# Altium schematic symbol library C8051Fx.SchLib: 21 symbols
Pins are listed as number, name and electrical type; pins without a type are passive.

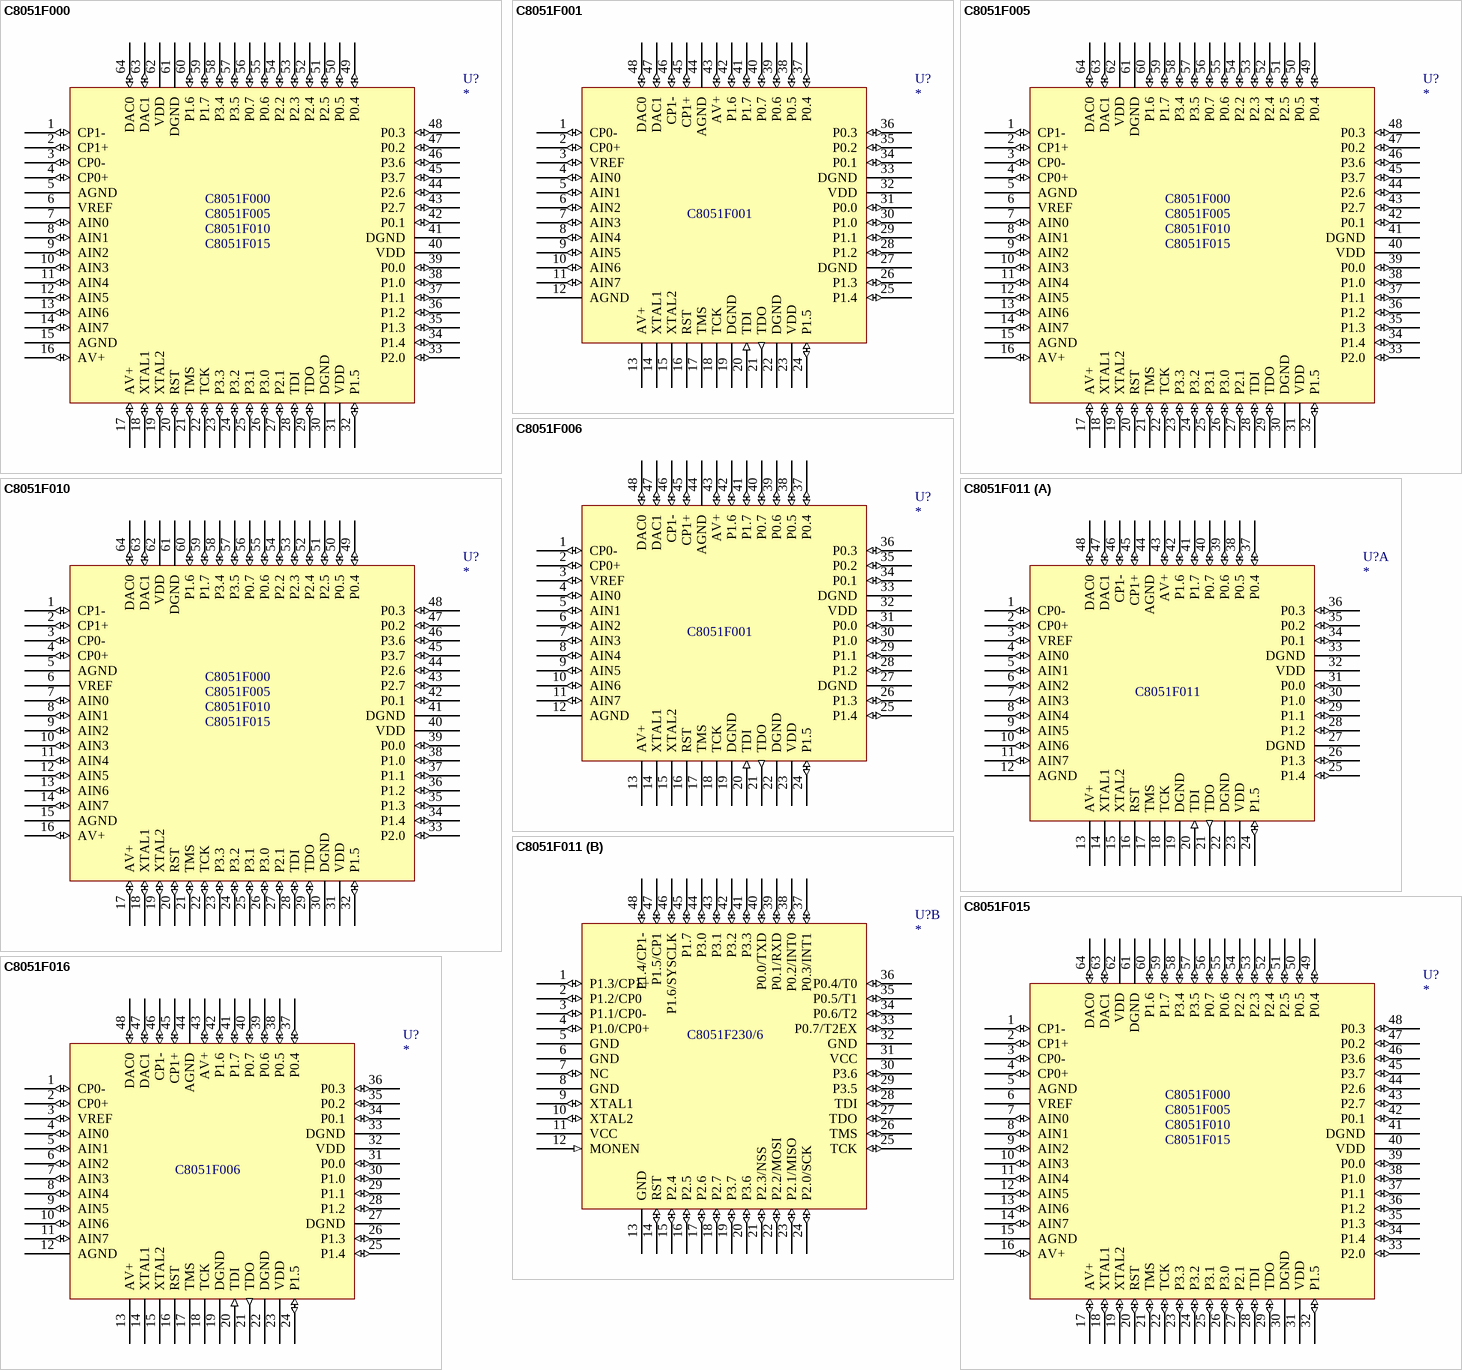
[diagram p0: symbols C8051F000 to C8051F016]

## C8051F000
designator U?
footprint TQFP-64
pins: 1 CP1- (io), 2 CP1+ (io), 3 CP0- (io), 4 CP0+ (io), 5 AGND (power), 6 VREF (power), 7 AIN0 (io), 8 AIN1 (io), 9 AIN2 (io), 10 AIN3 (io), 11 AIN4 (io), 12 AIN5 (io), 13 AIN6 (io), 14 AIN7 (io), 15 AGND (power), 16 AV+ (io), 17 AV+ (io), 18 XTAL1 (io), 19 XTAL2 (io), 20 RST (io), 21 TMS (io), 22 TCK (io), 23 P3.3 (io), 24 P3.2 (io), 25 P3.1 (io), 26 P3.0 (io), 27 P2.1 (io), 28 TDI (io), 29 TDO (io), 30 DGND (power), 31 VDD (power), 32 P1.5 (io), 33 P2.0 (io), 34 P1.4 (io), 35 P1.3 (io), 36 P1.2 (io), 37 P1.1 (io), 38 P1.0 (io), 39 P0.0 (io), 40 VDD (power), 41 DGND (power), 42 P0.1 (io), 43 P2.7 (io), 44 P2.6 (io), 45 P3.7 (io), 46 P3.6 (io), 47 P0.2 (io), 48 P0.3 (io), 49 P0.4 (io), 50 P0.5 (io), 51 P2.5 (io), 52 P2.4 (io), 53 P2.3 (io), 54 P2.2 (io), 55 P0.6 (io), 56 P0.7 (io), 57 P3.5 (io), 58 P3.4 (io), 59 P1.7 (io), 60 P1.6 (io), 61 DGND (power), 62 VDD (power), 63 DAC1 (io), 64 DAC0 (io)
text: C8051F005; C8051F010; C8051F015

## C8051F001
designator U?
footprint TQFP-48
pins: 1 CP0- (io), 2 CP0+ (io), 3 VREF (io), 4 AIN0 (io), 5 AIN1 (io), 6 AIN2 (io), 7 AIN3 (io), 8 AIN4 (io), 9 AIN5 (io), 10 AIN6 (io), 11 AIN7 (io), 12 AGND (power), 13 AV+ (power), 14 XTAL1 (power), 15 XTAL2 (power), 16 RST (power), 17 TMS (power), 18 TCK (power), 19 DGND (power), 20 TDI (in), 21 TDO (out), 22 DGND (power), 23 VDD (power), 24 P1.5 (io), 25 P1.4 (io), 26 P1.3 (io), 27 DGND (power), 28 P1.2 (io), 29 P1.1 (io), 30 P1.0 (io), 31 P0.0 (io), 32 VDD (power), 33 DGND (power), 34 P0.1 (io), 35 P0.2 (io), 36 P0.3 (io), 37 P0.4 (io), 38 P0.5 (io), 39 P0.6 (io), 40 P0.7 (io), 41 P1.7 (io), 42 P1.6 (io), 43 AV+ (io), 44 AGND (power), 45 CP1+ (io), 46 CP1- (io), 47 DAC1 (io), 48 DAC0 (io)

## C8051F005
designator U?
footprint TQFP-64
pins: 1 CP1- (io), 2 CP1+ (io), 3 CP0- (io), 4 CP0+ (io), 5 AGND (power), 6 VREF (power), 7 AIN0 (io), 8 AIN1 (io), 9 AIN2 (io), 10 AIN3 (io), 11 AIN4 (io), 12 AIN5 (io), 13 AIN6 (io), 14 AIN7 (io), 15 AGND (power), 16 AV+ (io), 17 AV+ (io), 18 XTAL1 (io), 19 XTAL2 (io), 20 RST (io), 21 TMS (io), 22 TCK (io), 23 P3.3 (io), 24 P3.2 (io), 25 P3.1 (io), 26 P3.0 (io), 27 P2.1 (io), 28 TDI (io), 29 TDO (io), 30 DGND (power), 31 VDD (power), 32 P1.5 (io), 33 P2.0 (io), 34 P1.4 (io), 35 P1.3 (io), 36 P1.2 (io), 37 P1.1 (io), 38 P1.0 (io), 39 P0.0 (io), 40 VDD (power), 41 DGND (power), 42 P0.1 (io), 43 P2.7 (io), 44 P2.6 (io), 45 P3.7 (io), 46 P3.6 (io), 47 P0.2 (io), 48 P0.3 (io), 49 P0.4 (io), 50 P0.5 (io), 51 P2.5 (io), 52 P2.4 (io), 53 P2.3 (io), 54 P2.2 (io), 55 P0.6 (io), 56 P0.7 (io), 57 P3.5 (io), 58 P3.4 (io), 59 P1.7 (io), 60 P1.6 (io), 61 DGND (power), 62 VDD (power), 63 DAC1 (io), 64 DAC0 (io)
text: C8051F000; C8051F010; C8051F015

## C8051F006
designator U?
footprint TQFP-48
pins: 1 CP0- (io), 2 CP0+ (io), 3 VREF (io), 4 AIN0 (io), 5 AIN1 (io), 6 AIN2 (io), 7 AIN3 (io), 8 AIN4 (io), 9 AIN5 (io), 10 AIN6 (io), 11 AIN7 (io), 12 AGND (power), 13 AV+ (power), 14 XTAL1 (power), 15 XTAL2 (power), 16 RST (power), 17 TMS (power), 18 TCK (power), 19 DGND (power), 20 TDI (in), 21 TDO (out), 22 DGND (power), 23 VDD (power), 24 P1.5 (io), 25 P1.4 (io), 26 P1.3 (io), 27 DGND (power), 28 P1.2 (io), 29 P1.1 (io), 30 P1.0 (io), 31 P0.0 (io), 32 VDD (power), 33 DGND (power), 34 P0.1 (io), 35 P0.2 (io), 36 P0.3 (io), 37 P0.4 (io), 38 P0.5 (io), 39 P0.6 (io), 40 P0.7 (io), 41 P1.7 (io), 42 P1.6 (io), 43 AV+ (io), 44 AGND (power), 45 CP1+ (io), 46 CP1- (io), 47 DAC1 (io), 48 DAC0 (io)
text: C8051F001

## C8051F010
designator U?
footprint TQFP-64
pins: 1 CP1- (io), 2 CP1+ (io), 3 CP0- (io), 4 CP0+ (io), 5 AGND (power), 6 VREF (power), 7 AIN0 (io), 8 AIN1 (io), 9 AIN2 (io), 10 AIN3 (io), 11 AIN4 (io), 12 AIN5 (io), 13 AIN6 (io), 14 AIN7 (io), 15 AGND (power), 16 AV+ (io), 17 AV+ (io), 18 XTAL1 (io), 19 XTAL2 (io), 20 RST (io), 21 TMS (io), 22 TCK (io), 23 P3.3 (io), 24 P3.2 (io), 25 P3.1 (io), 26 P3.0 (io), 27 P2.1 (io), 28 TDI (io), 29 TDO (io), 30 DGND (power), 31 VDD (power), 32 P1.5 (io), 33 P2.0 (io), 34 P1.4 (io), 35 P1.3 (io), 36 P1.2 (io), 37 P1.1 (io), 38 P1.0 (io), 39 P0.0 (io), 40 VDD (power), 41 DGND (power), 42 P0.1 (io), 43 P2.7 (io), 44 P2.6 (io), 45 P3.7 (io), 46 P3.6 (io), 47 P0.2 (io), 48 P0.3 (io), 49 P0.4 (io), 50 P0.5 (io), 51 P2.5 (io), 52 P2.4 (io), 53 P2.3 (io), 54 P2.2 (io), 55 P0.6 (io), 56 P0.7 (io), 57 P3.5 (io), 58 P3.4 (io), 59 P1.7 (io), 60 P1.6 (io), 61 DGND (power), 62 VDD (power), 63 DAC1 (io), 64 DAC0 (io)
text: C8051F000; C8051F005; C8051F015

## C8051F011
designator U?
footprint TQFP-48
part A pins: 1 CP0- (io), 2 CP0+ (io), 3 VREF (io), 4 AIN0 (io), 5 AIN1 (io), 6 AIN2 (io), 7 AIN3 (io), 8 AIN4 (io), 9 AIN5 (io), 10 AIN6 (io), 11 AIN7 (io), 12 AGND (power), 13 AV+ (power), 14 XTAL1 (power), 15 XTAL2 (power), 16 RST (power), 17 TMS (power), 18 TCK (power), 19 DGND (power), 20 TDI (in), 21 TDO (out), 22 DGND (power), 23 VDD (power), 24 P1.5 (io), 25 P1.4 (io), 26 P1.3 (io), 27 DGND (power), 28 P1.2 (io), 29 P1.1 (io), 30 P1.0 (io), 31 P0.0 (io), 32 VDD (power), 33 DGND (power), 34 P0.1 (io), 35 P0.2 (io), 36 P0.3 (io), 37 P0.4 (io), 38 P0.5 (io), 39 P0.6 (io), 40 P0.7 (io), 41 P1.7 (io), 42 P1.6 (io), 43 AV+ (io), 44 AGND (power), 45 CP1+ (io), 46 CP1- (io), 47 DAC1 (io), 48 DAC0 (io)
part B pins: 1 P1.3/CP1+ (io), 2 P1.2/CP0 (io), 3 P1.1/CP0- (io), 4 P1.0/CP0+ (io), 5 GND (power), 6 GND (power), 7 NC (io), 8 GND (power), 9 XTAL1 (io), 10 XTAL2 (io), 11 VCC (power), 12 MONEN (in), 13 GND (power), 14 RST (io), 15 P2.4 (io), 16 P2.5 (io), 17 P2.6 (io), 18 P2.7 (io), 19 P3.7 (io), 20 P3.6 (io), 21 P2.3/NSS (io), 22 P2.2/MOSI (io), 23 P2.1/MISO (io), 24 P2.0/SCK (io), 25 TCK (io), 26 TMS (io), 27 TDO (io), 28 TDI (io), 29 P3.5 (io), 30 P3.6 (io), 31 VCC (power), 32 GND (power), 33 P0.7/T2EX (io), 34 P0.6/T2 (io), 35 P0.5/T1 (io), 36 P0.4/T0 (io), 37 P0.3/INT1 (io), 38 P0.2/INT0 (io), 39 P0.1/RXD (io), 40 P0.0/TXD (io), 41 P3.3 (io), 42 P3.2 (io), 43 P3.1 (io), 44 P3.0 (io), 45 P1.7 (io), 46 P1.6/SYSCLK (io), 47 P1.5/CP1 (io), 48 P1.4/CP1- (io)
part B text: C8051F230/6

## C8051F015
designator U?
footprint TQFP-64
pins: 1 CP1- (io), 2 CP1+ (io), 3 CP0- (io), 4 CP0+ (io), 5 AGND (power), 6 VREF (power), 7 AIN0 (io), 8 AIN1 (io), 9 AIN2 (io), 10 AIN3 (io), 11 AIN4 (io), 12 AIN5 (io), 13 AIN6 (io), 14 AIN7 (io), 15 AGND (power), 16 AV+ (io), 17 AV+ (io), 18 XTAL1 (io), 19 XTAL2 (io), 20 RST (io), 21 TMS (io), 22 TCK (io), 23 P3.3 (io), 24 P3.2 (io), 25 P3.1 (io), 26 P3.0 (io), 27 P2.1 (io), 28 TDI (io), 29 TDO (io), 30 DGND (power), 31 VDD (power), 32 P1.5 (io), 33 P2.0 (io), 34 P1.4 (io), 35 P1.3 (io), 36 P1.2 (io), 37 P1.1 (io), 38 P1.0 (io), 39 P0.0 (io), 40 VDD (power), 41 DGND (power), 42 P0.1 (io), 43 P2.7 (io), 44 P2.6 (io), 45 P3.7 (io), 46 P3.6 (io), 47 P0.2 (io), 48 P0.3 (io), 49 P0.4 (io), 50 P0.5 (io), 51 P2.5 (io), 52 P2.4 (io), 53 P2.3 (io), 54 P2.2 (io), 55 P0.6 (io), 56 P0.7 (io), 57 P3.5 (io), 58 P3.4 (io), 59 P1.7 (io), 60 P1.6 (io), 61 DGND (power), 62 VDD (power), 63 DAC1 (io), 64 DAC0 (io)
text: C8051F000; C8051F005; C8051F010

## C8051F016
designator U?
footprint TQFP-48
pins: 1 CP0- (io), 2 CP0+ (io), 3 VREF (io), 4 AIN0 (io), 5 AIN1 (io), 6 AIN2 (io), 7 AIN3 (io), 8 AIN4 (io), 9 AIN5 (io), 10 AIN6 (io), 11 AIN7 (io), 12 AGND (power), 13 AV+ (power), 14 XTAL1 (power), 15 XTAL2 (power), 16 RST (power), 17 TMS (power), 18 TCK (power), 19 DGND (power), 20 TDI (in), 21 TDO (out), 22 DGND (power), 23 VDD (power), 24 P1.5 (io), 25 P1.4 (io), 26 P1.3 (io), 27 DGND (power), 28 P1.2 (io), 29 P1.1 (io), 30 P1.0 (io), 31 P0.0 (io), 32 VDD (power), 33 DGND (power), 34 P0.1 (io), 35 P0.2 (io), 36 P0.3 (io), 37 P0.4 (io), 38 P0.5 (io), 39 P0.6 (io), 40 P0.7 (io), 41 P1.7 (io), 42 P1.6 (io), 43 AV+ (io), 44 AGND (power), 45 CP1+ (io), 46 CP1- (io), 47 DAC1 (io), 48 DAC0 (io)
text: C8051F006

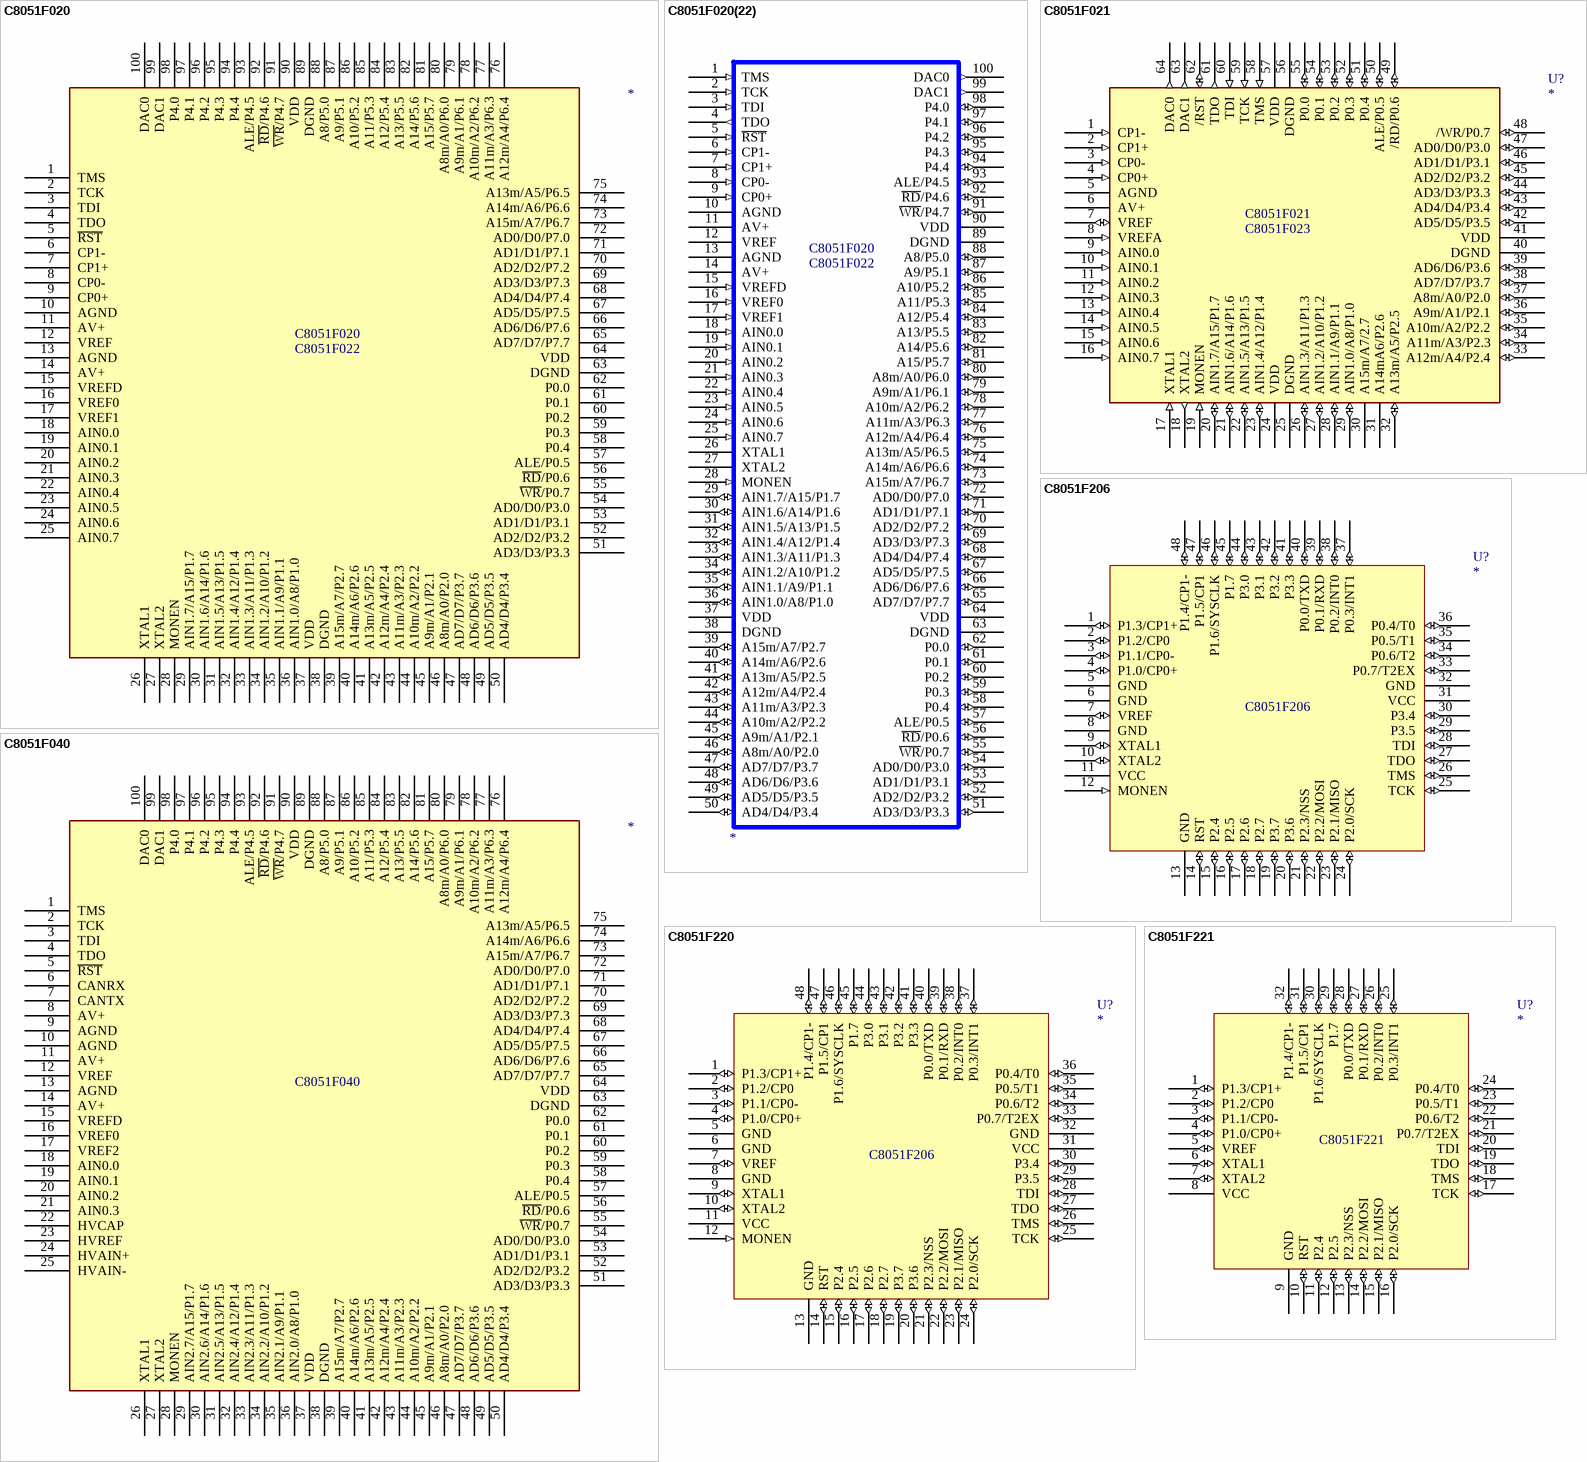
[diagram p1: symbols C8051F020 to C8051F221]

## C8051F020
designator ?
pins: 1 TMS, 2 TCK, 3 TDI, 4 TDO, 5 ~{RST}, 6 CP1-, 7 CP1+, 8 CP0-, 9 CP0+, 10 AGND, 11 AV+, 12 VREF, 13 AGND, 14 AV+, 15 VREFD, 16 VREF0, 17 VREF1, 18 AIN0.0, 19 AIN0.1, 20 AIN0.2, 21 AIN0.3, 22 AIN0.4, 23 AIN0.5, 24 AIN0.6, 25 AIN0.7, 26 XTAL1, 27 XTAL2, 28 MONEN, 29 AIN1.7/A15/P1.7, 30 AIN1.6/A14/P1.6, 31 AIN1.5/A13/P1.5, 32 AIN1.4/A12/P1.4, 33 AIN1.3/A11/P1.3, 34 AIN1.2/A10/P1.2, 35 AIN1.1/A9/P1.1, 36 AIN1.0/A8/P1.0, 37 VDD, 38 DGND, 39 A15m/A7/P2.7, 40 A14m/A6/P2.6, 41 A13m/A5/P2.5, 42 A12m/A4/P2.4, 43 A11m/A3/P2.3, 44 A10m/A2/P2.2, 45 A9m/A1/P2.1, 46 A8m/A0/P2.0, 47 AD7/D7/P3.7, 48 AD6/D6/P3.6, 49 AD5/D5/P3.5, 50 AD4/D4/P3.4, 51 AD3/D3/P3.3, 52 AD2/D2/P3.2, 53 AD1/D1/P3.1, 54 AD0/D0/P3.0, 55 ~{WR}/P0.7, 56 ~{RD}/P0.6, 57 ALE/P0.5, 58 P0.4, 59 P0.3, 60 P0.2, 61 P0.1, 62 P0.0, 63 DGND, 64 VDD, 65 AD7/D7/P7.7, 66 AD6/D6/P7.6, 67 AD5/D5/P7.5, 68 AD4/D4/P7.4, 69 AD3/D3/P7.3, 70 AD2/D2/P7.2, 71 AD1/D1/P7.1, 72 AD0/D0/P7.0, 73 A15m/A7/P6.7, 74 A14m/A6/P6.6, 75 A13m/A5/P6.5, 76 A12m/A4/P6.4, 77 A11m/A3/P6.3, 78 A10m/A2/P6.2, 79 A9m/A1/P6.1, 80 A8m/A0/P6.0, 81 A15/P5.7, 82 A14/P5.6, 83 A13/P5.5, 84 A12/P5.4, 85 A11/P5.3, 86 A10/P5.2, 87 A9/P5.1, 88 A8/P5.0, 89 DGND, 90 VDD, 91 ~{WR}/P4.7, 92 ~{RD}/P4.6, 93 ALE/P4.5, 94 P4.4, 95 P4.3, 96 P4.2, 97 P4.1, 98 P4.0, 99 DAC1, 100 DAC0
text: C8051F022

## C8051F020(22)
designator ?
pins: 1 TMS (in), 2 TCK (in), 3 TDI (in), 4 TDO (out), 5 ~{RST} (in), 6 CP1- (in), 7 CP1+ (in), 8 CP0- (in), 9 CP0+ (in), 10 AGND (power), 11 AV+ (power), 12 VREF, 13 AGND (power), 14 AV+ (power), 15 VREFD (in), 16 VREF0 (in), 17 VREF1 (in), 18 AIN0.0 (in), 19 AIN0.1 (in), 20 AIN0.2 (in), 21 AIN0.3 (in), 22 AIN0.4 (in), 23 AIN0.5 (in), 24 AIN0.6 (in), 25 AIN0.7 (in), 26 XTAL1, 27 XTAL2, 28 MONEN (in), 29 AIN1.7/A15/P1.7 (io), 30 AIN1.6/A14/P1.6 (io), 31 AIN1.5/A13/P1.5 (io), 32 AIN1.4/A12/P1.4 (io), 33 AIN1.3/A11/P1.3 (io), 34 AIN1.2/A10/P1.2 (io), 35 AIN1.1/A9/P1.1 (io), 36 AIN1.0/A8/P1.0 (io), 37 VDD (power), 38 DGND (power), 39 A15m/A7/P2.7 (io), 40 A14m/A6/P2.6 (io), 41 A13m/A5/P2.5 (io), 42 A12m/A4/P2.4 (io), 43 A11m/A3/P2.3 (io), 44 A10m/A2/P2.2 (io), 45 A9m/A1/P2.1 (io), 46 A8m/A0/P2.0 (io), 47 AD7/D7/P3.7 (io), 48 AD6/D6/P3.6 (io), 49 AD5/D5/P3.5 (io), 50 AD4/D4/P3.4 (io), 51 AD3/D3/P3.3 (io), 52 AD2/D2/P3.2 (io), 53 AD1/D1/P3.1 (io), 54 AD0/D0/P3.0 (io), 55 ~{WR}/P0.7 (io), 56 ~{RD}/P0.6 (io), 57 ALE/P0.5 (io), 58 P0.4 (io), 59 P0.3 (io), 60 P0.2 (io), 61 P0.1 (io), 62 P0.0 (io), 63 DGND (power), 64 VDD (power), 65 AD7/D7/P7.7 (io), 66 AD6/D6/P7.6 (io), 67 AD5/D5/P7.5 (io), 68 AD4/D4/P7.4 (io), 69 AD3/D3/P7.3 (io), 70 AD2/D2/P7.2 (io), 71 AD1/D1/P7.1 (io), 72 AD0/D0/P7.0 (io), 73 A15m/A7/P6.7 (io), 74 A14m/A6/P6.6 (io), 75 A13m/A5/P6.5 (io), 76 A12m/A4/P6.4 (io), 77 A11m/A3/P6.3 (io), 78 A10m/A2/P6.2 (io), 79 A9m/A1/P6.1 (io), 80 A8m/A0/P6.0 (io), 81 A15/P5.7 (io), 82 A14/P5.6 (io), 83 A13/P5.5 (io), 84 A12/P5.4 (io), 85 A11/P5.3 (io), 86 A10/P5.2 (io), 87 A9/P5.1 (io), 88 A8/P5.0 (io), 89 DGND (power), 90 VDD (power), 91 ~{WR}/P4.7 (io), 92 ~{RD}/P4.6 (io), 93 ALE/P4.5 (io), 94 P4.4 (io), 95 P4.3 (io), 96 P4.2 (io), 97 P4.1 (io), 98 P4.0 (io), 99 DAC1 (out), 100 DAC0 (out)
text: C8051F020; C8051F022

## C8051F021
designator U?
footprint TQFP-64
pins: 1 CP1- (in), 2 CP1+ (in), 3 CP0- (in), 4 CP0+ (in), 5 AGND (power), 6 AV+ (power), 7 VREF (io), 8 VREFA (in), 9 AIN0.0 (in), 10 AIN0.1 (in), 11 AIN0.2 (in), 12 AIN0.3 (in), 13 AIN0.4 (in), 14 AIN0.5 (in), 15 AIN0.6 (in), 16 AIN0.7 (in), 17 XTAL1 (in), 18 XTAL2 (out), 19 MONEN (in), 20 AIN1.7/A15/P1.7 (io), 21 AIN1.6/A14/P1.6 (io), 22 AIN1.5/A13/P1.5 (io), 23 AIN1.4/A12/P1.4 (io), 24 VDD (power), 25 DGND (power), 26 AIN1.3/A11/P1.3 (io), 27 AIN1.2/A10/P1.2 (io), 28 AIN1.1/A9/P1.1 (io), 29 AIN1.0/A8/P1.0 (io), 30 A15m/A7/2.7 (power), 31 A14mA6/P2.6 (power), 32 A13m/A5/P2.5 (io), 33 A12m/A4/P2.4 (io), 34 A11m/A3/P2.3 (io), 35 A10m/A2/P2.2 (io), 36 A9m/A1/P2.1 (io), 37 A8m/A0/P2.0 (io), 38 AD7/D7/P3.7 (io), 39 AD6/D6/P3.6 (io), 40 DGND (power), 41 VDD (power), 42 AD5/D5/P3.5 (io), 43 AD4/D4/P3.4 (io), 44 AD3/D3/P3.3 (io), 45 AD2/D2/P3.2 (io), 46 AD1/D1/P3.1 (io), 47 AD0/D0/P3.0 (io), 48 /WR/P0.7 (io), 49 /RD/P0.6 (io), 50 ALE/P0.5 (io), 51 P0.4 (io), 52 P0.3 (io), 53 P0.2 (io), 54 P0.1 (io), 55 P0.0 (io), 56 DGND (power), 57 VDD (power), 58 TMS (in), 59 TCK (in), 60 TDI (in), 61 TDO (out), 62 /RST (io), 63 DAC1 (out), 64 DAC0 (out)
text: C8051F023

## C8051F040
designator ?
pins: 1 TMS, 2 TCK, 3 TDI, 4 TDO, 5 ~{RST}, 6 CANRX, 7 CANTX, 8 AV+, 9 AGND, 10 AGND, 11 AV+, 12 VREF, 13 AGND, 14 AV+, 15 VREFD, 16 VREF0, 17 VREF2, 18 AIN0.0, 19 AIN0.1, 20 AIN0.2, 21 AIN0.3, 22 HVCAP, 23 HVREF, 24 HVAIN+, 25 HVAIN-, 26 XTAL1, 27 XTAL2, 28 MONEN, 29 AIN2.7/A15/P1.7, 30 AIN2.6/A14/P1.6, 31 AIN2.5/A13/P1.5, 32 AIN2.4/A12/P1.4, 33 AIN2.3/A11/P1.3, 34 AIN2.2/A10/P1.2, 35 AIN2.1/A9/P1.1, 36 AIN2.0/A8/P1.0, 37 VDD, 38 DGND, 39 A15m/A7/P2.7, 40 A14m/A6/P2.6, 41 A13m/A5/P2.5, 42 A12m/A4/P2.4, 43 A11m/A3/P2.3, 44 A10m/A2/P2.2, 45 A9m/A1/P2.1, 46 A8m/A0/P2.0, 47 AD7/D7/P3.7, 48 AD6/D6/P3.6, 49 AD5/D5/P3.5, 50 AD4/D4/P3.4, 51 AD3/D3/P3.3, 52 AD2/D2/P3.2, 53 AD1/D1/P3.1, 54 AD0/D0/P3.0, 55 ~{WR}/P0.7, 56 ~{RD}/P0.6, 57 ALE/P0.5, 58 P0.4, 59 P0.3, 60 P0.2, 61 P0.1, 62 P0.0, 63 DGND, 64 VDD, 65 AD7/D7/P7.7, 66 AD6/D6/P7.6, 67 AD5/D5/P7.5, 68 AD4/D4/P7.4, 69 AD3/D3/P7.3, 70 AD2/D2/P7.2, 71 AD1/D1/P7.1, 72 AD0/D0/P7.0, 73 A15m/A7/P6.7, 74 A14m/A6/P6.6, 75 A13m/A5/P6.5, 76 A12m/A4/P6.4, 77 A11m/A3/P6.3, 78 A10m/A2/P6.2, 79 A9m/A1/P6.1, 80 A8m/A0/P6.0, 81 A15/P5.7, 82 A14/P5.6, 83 A13/P5.5, 84 A12/P5.4, 85 A11/P5.3, 86 A10/P5.2, 87 A9/P5.1, 88 A8/P5.0, 89 DGND, 90 VDD, 91 ~{WR}/P4.7, 92 ~{RD}/P4.6, 93 ALE/P4.5, 94 P4.4, 95 P4.3, 96 P4.2, 97 P4.1, 98 P4.0, 99 DAC1, 100 DAC0

## C8051F206
designator U?
footprint TQFP-48
pins: 1 P1.3/CP1+ (io), 2 P1.2/CP0 (io), 3 P1.1/CP0- (io), 4 P1.0/CP0+ (io), 5 GND (power), 6 GND (power), 7 VREF (io), 8 GND (power), 9 XTAL1 (io), 10 XTAL2 (io), 11 VCC (power), 12 MONEN (in), 13 GND (power), 14 RST (io), 15 P2.4 (io), 16 P2.5 (io), 17 P2.6 (io), 18 P2.7 (io), 19 P3.7 (io), 20 P3.6 (io), 21 P2.3/NSS (io), 22 P2.2/MOSI (io), 23 P2.1/MISO (io), 24 P2.0/SCK (io), 25 TCK (io), 26 TMS (io), 27 TDO (io), 28 TDI (io), 29 P3.5 (io), 30 P3.4 (io), 31 VCC (power), 32 GND (power), 33 P0.7/T2EX (io), 34 P0.6/T2 (io), 35 P0.5/T1 (io), 36 P0.4/T0 (io), 37 P0.3/INT1 (io), 38 P0.2/INT0 (io), 39 P0.1/RXD (io), 40 P0.0/TXD (io), 41 P3.3 (io), 42 P3.2 (io), 43 P3.1 (io), 44 P3.0 (io), 45 P1.7 (io), 46 P1.6/SYSCLK (io), 47 P1.5/CP1 (io), 48 P1.4/CP1- (io)

## C8051F220
designator U?
footprint TQFP-48
pins: 1 P1.3/CP1+ (io), 2 P1.2/CP0 (io), 3 P1.1/CP0- (io), 4 P1.0/CP0+ (io), 5 GND (power), 6 GND (power), 7 VREF (io), 8 GND (power), 9 XTAL1 (io), 10 XTAL2 (io), 11 VCC (power), 12 MONEN (in), 13 GND (power), 14 RST (io), 15 P2.4 (io), 16 P2.5 (io), 17 P2.6 (io), 18 P2.7 (io), 19 P3.7 (io), 20 P3.6 (io), 21 P2.3/NSS (io), 22 P2.2/MOSI (io), 23 P2.1/MISO (io), 24 P2.0/SCK (io), 25 TCK (io), 26 TMS (io), 27 TDO (io), 28 TDI (io), 29 P3.5 (io), 30 P3.4 (io), 31 VCC (power), 32 GND (power), 33 P0.7/T2EX (io), 34 P0.6/T2 (io), 35 P0.5/T1 (io), 36 P0.4/T0 (io), 37 P0.3/INT1 (io), 38 P0.2/INT0 (io), 39 P0.1/RXD (io), 40 P0.0/TXD (io), 41 P3.3 (io), 42 P3.2 (io), 43 P3.1 (io), 44 P3.0 (io), 45 P1.7 (io), 46 P1.6/SYSCLK (io), 47 P1.5/CP1 (io), 48 P1.4/CP1- (io)
text: C8051F206

## C8051F221
designator U?
footprint LQFP-32
pins: 1 P1.3/CP1+ (io), 2 P1.2/CP0 (io), 3 P1.1/CP0- (io), 4 P1.0/CP0+ (io), 5 VREF (io), 6 XTAL1 (io), 7 XTAL2 (io), 8 VCC (power), 9 GND (power), 10 RST (io), 11 P2.4 (io), 12 P2.5 (io), 13 P2.3/NSS (io), 14 P2.2/MOSI (io), 15 P2.1/MISO (io), 16 P2.0/SCK (io), 17 TCK (io), 18 TMS (io), 19 TDO (io), 20 TDI (io), 21 P0.7/T2EX (io), 22 P0.6/T2 (io), 23 P0.5/T1 (io), 24 P0.4/T0 (io), 25 P0.3/INT1 (io), 26 P0.2/INT0 (io), 27 P0.1/RXD (io), 28 P0.0/TXD (io), 29 P1.7 (io), 30 P1.6/SYSCLK (io), 31 P1.5/CP1 (io), 32 P1.4/CP1- (io)

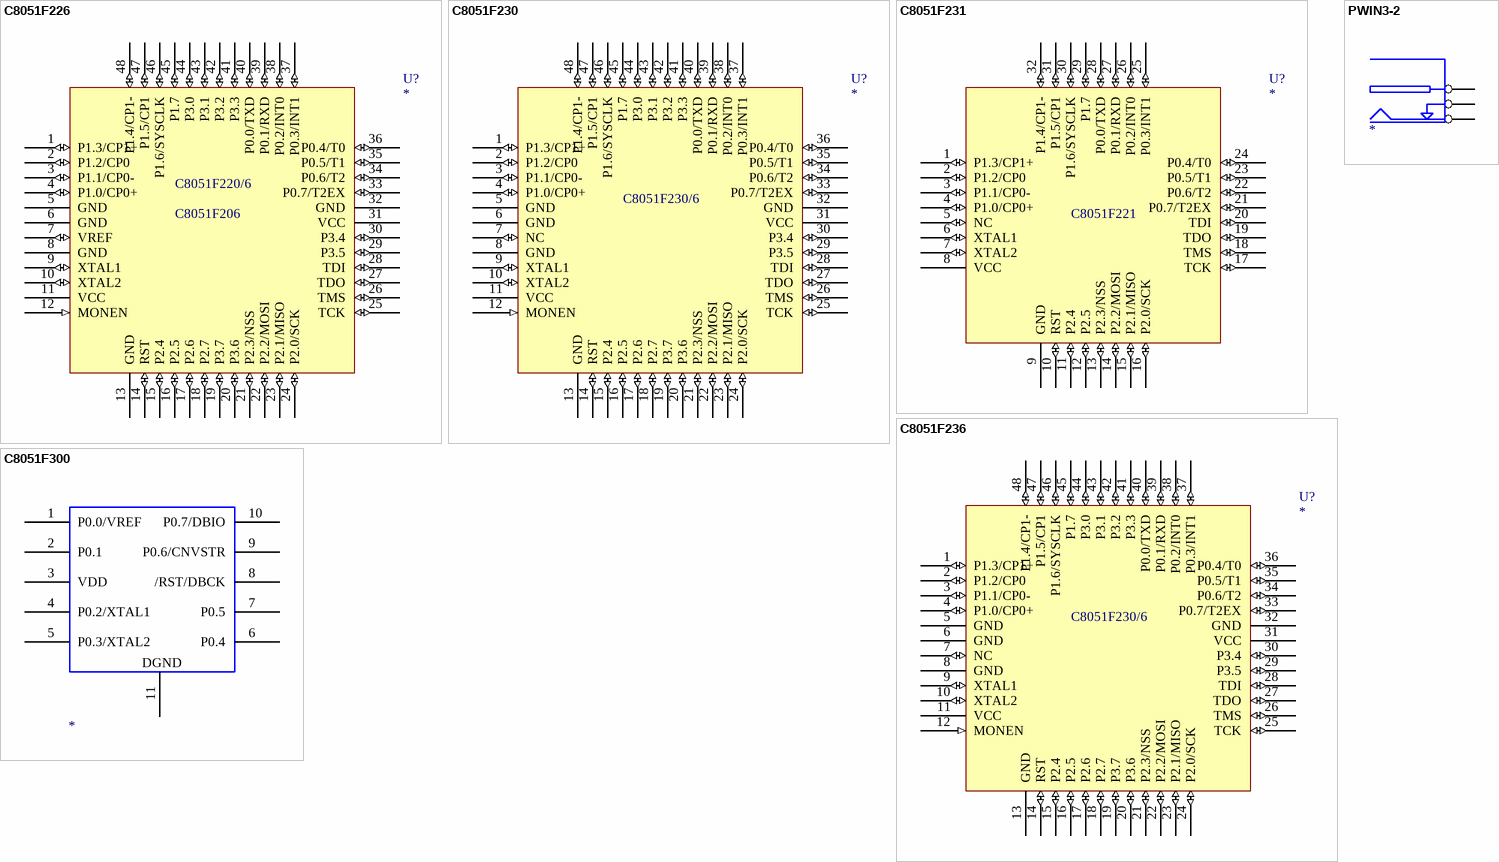
[diagram p2: symbols C8051F226 to PWIN3-2]

## C8051F226
designator U?
pins: 1 P1.3/CP1+ (io), 2 P1.2/CP0 (io), 3 P1.1/CP0- (io), 4 P1.0/CP0+ (io), 5 GND (power), 6 GND (power), 7 VREF (io), 8 GND (power), 9 XTAL1 (io), 10 XTAL2 (io), 11 VCC (power), 12 MONEN (in), 13 GND (power), 14 RST (io), 15 P2.4 (io), 16 P2.5 (io), 17 P2.6 (io), 18 P2.7 (io), 19 P3.7 (io), 20 P3.6 (io), 21 P2.3/NSS (io), 22 P2.2/MOSI (io), 23 P2.1/MISO (io), 24 P2.0/SCK (io), 25 TCK (io), 26 TMS (io), 27 TDO (io), 28 TDI (io), 29 P3.5 (io), 30 P3.4 (io), 31 VCC (power), 32 GND (power), 33 P0.7/T2EX (io), 34 P0.6/T2 (io), 35 P0.5/T1 (io), 36 P0.4/T0 (io), 37 P0.3/INT1 (io), 38 P0.2/INT0 (io), 39 P0.1/RXD (io), 40 P0.0/TXD (io), 41 P3.3 (io), 42 P3.2 (io), 43 P3.1 (io), 44 P3.0 (io), 45 P1.7 (io), 46 P1.6/SYSCLK (io), 47 P1.5/CP1 (io), 48 P1.4/CP1- (io)
text: C8051F220/6; C8051F206

## C8051F230
designator U?
pins: 1 P1.3/CP1+ (io), 2 P1.2/CP0 (io), 3 P1.1/CP0- (io), 4 P1.0/CP0+ (io), 5 GND (power), 6 GND (power), 7 NC (io), 8 GND (power), 9 XTAL1 (io), 10 XTAL2 (io), 11 VCC (power), 12 MONEN (in), 13 GND (power), 14 RST (io), 15 P2.4 (io), 16 P2.5 (io), 17 P2.6 (io), 18 P2.7 (io), 19 P3.7 (io), 20 P3.6 (io), 21 P2.3/NSS (io), 22 P2.2/MOSI (io), 23 P2.1/MISO (io), 24 P2.0/SCK (io), 25 TCK (io), 26 TMS (io), 27 TDO (io), 28 TDI (io), 29 P3.5 (io), 30 P3.4 (io), 31 VCC (power), 32 GND (power), 33 P0.7/T2EX (io), 34 P0.6/T2 (io), 35 P0.5/T1 (io), 36 P0.4/T0 (io), 37 P0.3/INT1 (io), 38 P0.2/INT0 (io), 39 P0.1/RXD (io), 40 P0.0/TXD (io), 41 P3.3 (io), 42 P3.2 (io), 43 P3.1 (io), 44 P3.0 (io), 45 P1.7 (io), 46 P1.6/SYSCLK (io), 47 P1.5/CP1 (io), 48 P1.4/CP1- (io)
text: C8051F230/6

## C8051F231
designator U?
footprint LQFP-32
pins: 1 P1.3/CP1+ (io), 2 P1.2/CP0 (io), 3 P1.1/CP0- (io), 4 P1.0/CP0+ (io), 5 NC (io), 6 XTAL1 (io), 7 XTAL2 (io), 8 VCC (power), 9 GND (power), 10 RST (io), 11 P2.4 (io), 12 P2.5 (io), 13 P2.3/NSS (io), 14 P2.2/MOSI (io), 15 P2.1/MISO (io), 16 P2.0/SCK (io), 17 TCK (io), 18 TMS (io), 19 TDO (io), 20 TDI (io), 21 P0.7/T2EX (io), 22 P0.6/T2 (io), 23 P0.5/T1 (io), 24 P0.4/T0 (io), 25 P0.3/INT1 (io), 26 P0.2/INT0 (io), 27 P0.1/RXD (io), 28 P0.0/TXD (io), 29 P1.7 (io), 30 P1.6/SYSCLK (io), 31 P1.5/CP1 (io), 32 P1.4/CP1- (io)
text: C8051F221

## C8051F236
designator U?
pins: 1 P1.3/CP1+ (io), 2 P1.2/CP0 (io), 3 P1.1/CP0- (io), 4 P1.0/CP0+ (io), 5 GND (power), 6 GND (power), 7 NC (io), 8 GND (power), 9 XTAL1 (io), 10 XTAL2 (io), 11 VCC (power), 12 MONEN (in), 13 GND (power), 14 RST (io), 15 P2.4 (io), 16 P2.5 (io), 17 P2.6 (io), 18 P2.7 (io), 19 P3.7 (io), 20 P3.6 (io), 21 P2.3/NSS (io), 22 P2.2/MOSI (io), 23 P2.1/MISO (io), 24 P2.0/SCK (io), 25 TCK (io), 26 TMS (io), 27 TDO (io), 28 TDI (io), 29 P3.5 (io), 30 P3.4 (io), 31 VCC (power), 32 GND (power), 33 P0.7/T2EX (io), 34 P0.6/T2 (io), 35 P0.5/T1 (io), 36 P0.4/T0 (io), 37 P0.3/INT1 (io), 38 P0.2/INT0 (io), 39 P0.1/RXD (io), 40 P0.0/TXD (io), 41 P3.3 (io), 42 P3.2 (io), 43 P3.1 (io), 44 P3.0 (io), 45 P1.7 (io), 46 P1.6/SYSCLK (io), 47 P1.5/CP1 (io), 48 P1.4/CP1- (io)
text: C8051F230/6

## C8051F300
designator ?
pins: 1 P0.0/VREF, 2 P0.1, 3 VDD, 4 P0.2/XTAL1, 5 P0.3/XTAL2, 6 P0.4, 7 P0.5, 8 /RST/DBCK, 9 P0.6/CNVSTR, 10 P0.7/DBIO, 11 DGND

## PWIN3-2
designator ?
pins: 1, 2, 3